# Altium footprint library Resistor.PcbLib: 42 footprints (part 3 of 3)
Each footprint in its own frame and in the unit in brackets; x right, y up, seen from the top. Pads: shape width x height; smd on the part's side, far side on the other; paste and mask are expansions set on the pad; w line width, h text height; cw(c..) or ccw(c..) is an arc to the next point about the centre after c.
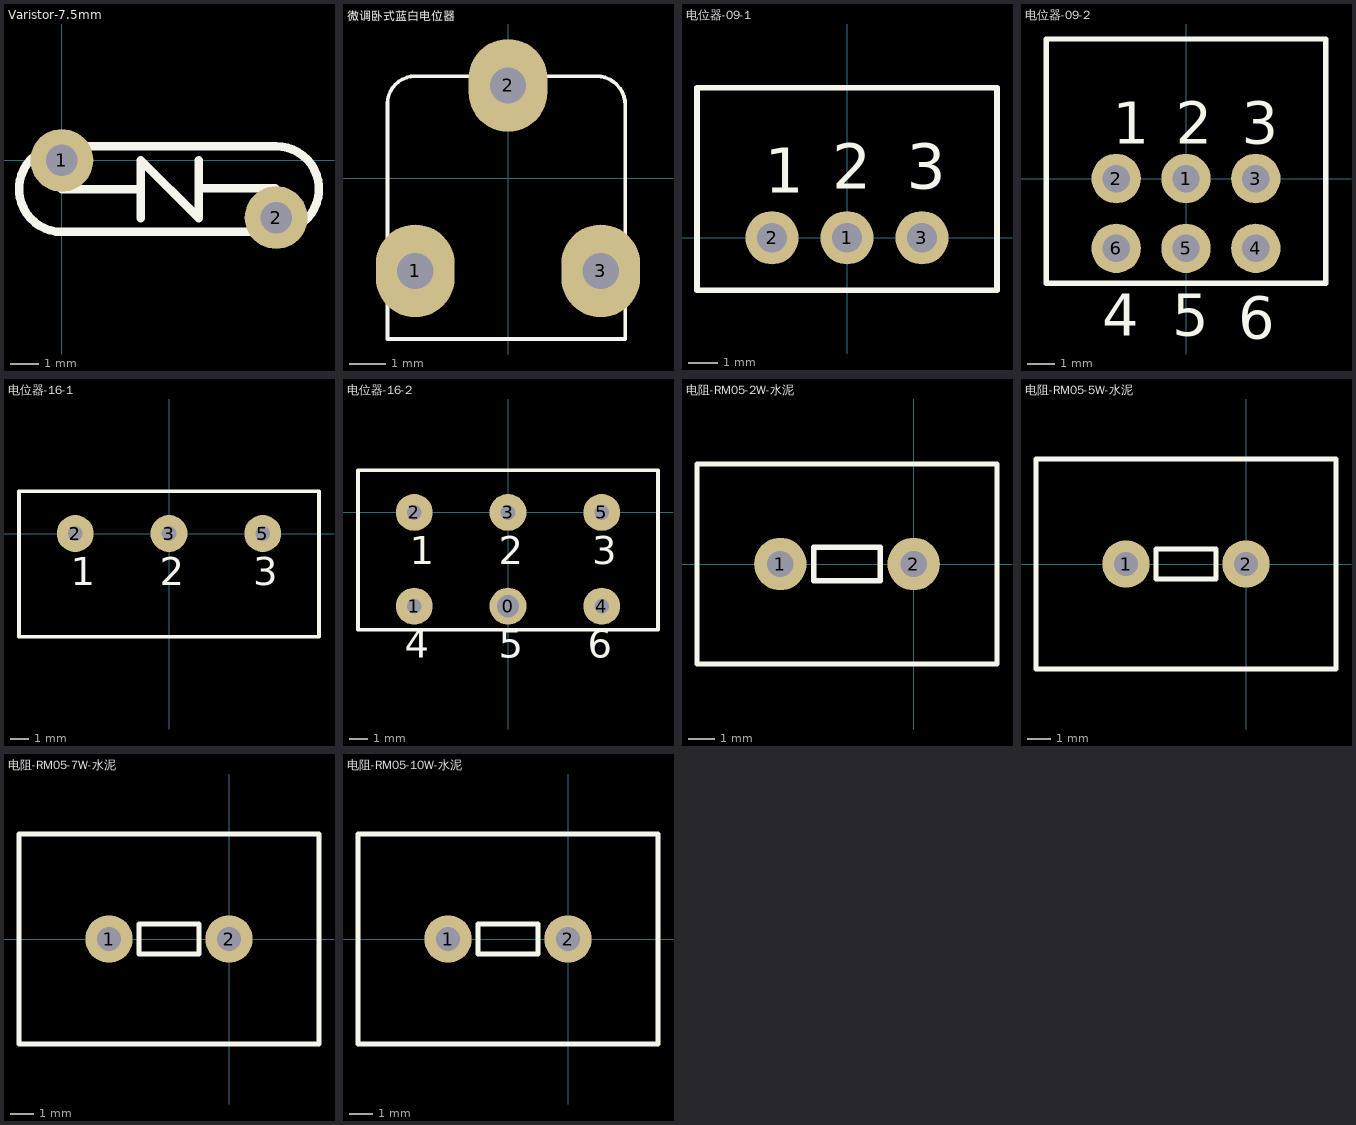
[diagram p2: the footprints below, top view; thin cyan lines are the x and y axes]

## Varistor-7.5mm [mm]
pads (2):
  round 2.2 hole 1.1: 1(0,0) 2(7.5,-2)
Top Overlay:
  lines w0.3: 0,-1.003 2.625,-1.003 ; 2.757,-2.019 2.757,0.013 4.789,-2.019 4.789,0.013 ; 4.825,-0.978 7.475,-0.978 ; 0,-2.503 cw(c0,-1.003) 0,0.497 7.5,0.497 cw(c7.5,-1.003) 7.5,-2.503 0,-2.503
Bottom Courtyard:
  text ".Designator" at 11.368,-1.508 h1.52
3D body "10D471K.STEP": height 11.2, standoff -4, extent -1.6,-2.8 9.1,0.8

## 微调卧式蓝白电位器 [mil]
pads (3):
  oval 85x100 hole 39: 1(-100,-100) 2(0,100) 3(100,-100)
Top Overlay:
  lines w3.94: -130,-173.46 -130,80 cw(c-100,80) -100,110 95,110 cw(c95,78.46) 126.54,78.46 126.54,-173.46 -130,-173.46
Bottom Courtyard:
  text ".Designator" at 299.9,-38.98 h60
3D body "User Library-Trimmer, 3306F-1.STEP": height 300, standoff -119.49, extent -134.05,-191.98 134.06,132.89

## 电位器-09-1 [mm]
pads (3):
  round 1.8 hole 1: 1(0,0) 2(-2.54,0) 3(2.54,0)
Top Overlay:
  lines w0.2: -5.08,-1.778 5.08,-1.778 5.08,5.08 -5.08,5.08 -5.08,-1.778
  text "3" at 2.032,1.651 h1.52
  text "2" at -0.508,1.651 h1.52
  text "1" at -2.794,1.524 h1.52
Bottom Courtyard:
  text ".Designator" at 7.618,8.593 h1.52
3D body: height 3, standoff 0, extent -2.794,-0.254 -2.286,0.254
3D body: height 3, standoff 0, extent -0.254,-0.254 0.254,0.254
3D body: height 3, standoff 0, extent 2.286,-0.254 2.794,0.254
3D body: height 8.88, standoff 3.82, extent -2.53,10.08 2.53,13.08
3D body: height 9.34, standoff 3.36, extent -2.988,13.08 2.988,20.08
3D body: height 9.84, standoff 2.86, extent -3.485,5.08 3.487,10.08
3D body: height 11, standoff 0, extent -5.08,3.81 5.08,5.08
3D body: height 11, standoff 0, extent -5.08,-1.778 5.08,3.81

## 电位器-09-2 [mm]
pads (6):
  round 1.8 hole 1: 1(0,0) 2(-2.54,0) 3(2.54,0) 4(2.54,-2.54) 5(0,-2.54) 6(-2.54,-2.54)
Top Overlay:
  lines w0.2: -5.08,-3.81 -5.08,5.08 5.08,5.08 5.08,-3.81 -5.08,-3.81
  text "6" at 1.905,-5.842 h1.52
  text "5" at -0.508,-5.715 h1.52
  text "4" at -3.048,-5.715 h1.52
  text "3" at 2.032,1.27 h1.52
  text "2" at -0.381,1.27 h1.52
  text "1" at -2.667,1.27 h1.52
Bottom Courtyard:
  text ".Designator" at 7.618,6.484 h1.52
3D body: height 3, standoff 0, extent -2.794,-2.794 -2.286,-2.286
3D body: height 3, standoff 0, extent -0.254,-2.794 0.254,-2.286
3D body: height 3, standoff 0, extent 2.286,-2.794 2.794,-2.286
3D body: height 3, standoff 0, extent -2.794,-0.254 -2.286,0.254
3D body: height 3, standoff 0, extent -0.254,-0.254 0.254,0.254
3D body: height 3, standoff 0, extent 2.286,-0.254 2.794,0.254
3D body: height 8.88, standoff 3.82, extent -2.53,10.08 2.53,13.08
3D body: height 9.34, standoff 3.36, extent -2.988,13.08 2.988,20.08
3D body: height 9.84, standoff 2.86, extent -3.485,5.08 3.487,10.08
3D body: height 11, standoff 0, extent -5.08,3.81 5.08,5.08
3D body: height 11, standoff 0, extent -5.08,-3.81 5.08,3.81

## 电位器-16-1 [mm]
pads (3):
  round 2 hole 0.8: 2(-5.08,0) 3(0,0) 5(5.08,0)
Top Overlay:
  lines w0.2: -8.128,-5.588 -8.128,2.286 8.128,2.286 8.128,-5.588 -8.128,-5.588
  text "3" at 4.572,-2.794 h1.52
  text "2" at -0.508,-2.794 h1.52
  text "1" at -5.334,-2.794 h1.52
Bottom Courtyard:
  text ".Designator" at 7.618,7.998 h1.52
3D body: height 17.69, standoff 7.71, extent -4.98,-5.588 4.98,-4.488
3D body: height 15.69, standoff 9.71, extent -2.978,12.7 2.998,22.7
3D body: height 15.23, standoff 10.17, extent -2.52,9.7 2.54,12.7
3D body: height 16.19, standoff 9.21, extent -3.51,3.302 3.463,9.802
3D body: height 18.69, standoff 6.71, extent -5.976,2.302 5.976,3.302
3D body: height 13, standoff 1, extent -7.968,0.246 7.968,1.278
3D body: height 20.68, standoff 4.72, extent -7.937,0.27 8,1.27
3D body: height 20.68, standoff 4.72, extent -7.968,1.286 7.968,2.286
3D body: height 4, standoff 0, extent -1.27,-0.381 1.27,0.381
3D body: height 4, standoff 0, extent 3.81,-0.381 6.35,0.381
3D body: height 4, standoff 0, extent -6.35,-0.381 -3.81,0.381
3D body: height 1, standoff -4, extent -5.477,-0.399 -4.68,0.399
3D body: height 1, standoff -4, extent -0.397,-0.399 0.4,0.399
3D body: height 1, standoff -4, extent 4.683,-0.399 5.48,0.399
3D body: height 2.6, standoff 1.4, extent -5.678,-0.508 -4.482,1.492
3D body: height 2.6, standoff 1.4, extent -0.598,-0.508 0.598,1.492
3D body: height 2.6, standoff 1.4, extent 4.482,-0.508 5.678,1.492
3D body: height 20.68, standoff 4.72, extent -7.939,-5.492 7.998,0.508

## 电位器-16-2 [mm]
pads (6):
  round 2 hole 1.2: 0(0,-5.08)
  round 2 hole 0.8: 1(-5.08,-5.08) 2(-5.08,0) 3(0,0) 4(5.08,-5.08) 5(5.08,0)
Top Overlay:
  lines w0.2: -8.128,-6.35 8.128,-6.35 8.128,2.286 -8.128,2.286 -8.128,-6.35
  text "4" at -5.588,-7.874 h1.52
  text "5" at -0.508,-7.874 h1.52
  text "6" at 4.318,-7.874 h1.52
  text "1" at -5.334,-2.794 h1.52
  text "2" at -0.508,-2.794 h1.52
  text "3" at 4.572,-2.794 h1.52
Bottom Courtyard:
  text ".Designator" at 7.618,6.778 h1.52
3D body: height 20.68, standoff 4.72, extent -7.939,-5.492 7.998,0.508
3D body: height 2.6, standoff 1.4, extent -5.678,-6.572 -4.482,-4.572
3D body: height 2.6, standoff 1.4, extent -0.598,-6.572 0.598,-4.572
3D body: height 2.6, standoff 1.4, extent 4.482,-6.572 5.678,-4.572
3D body: height 2.6, standoff 1.4, extent 4.482,-0.508 5.678,1.492
3D body: height 2.6, standoff 1.4, extent -0.598,-0.508 0.598,1.492
3D body: height 2.6, standoff 1.4, extent -5.678,-0.508 -4.482,1.492
3D body: height 1, standoff -4, extent 4.683,-0.399 5.48,0.399
3D body: height 1, standoff -4, extent -0.397,-0.399 0.4,0.399
3D body: height 1, standoff -4, extent -5.477,-0.399 -4.68,0.399
3D body: height 4, standoff 0, extent 3.81,-5.461 6.35,-4.699
3D body: height 4, standoff 0, extent -1.27,-5.461 1.27,-4.699
3D body: height 4, standoff 0, extent -6.35,-5.461 -3.81,-4.699
3D body: height 4, standoff 0, extent -6.35,-0.381 -3.81,0.381
3D body: height 4, standoff 0, extent 3.81,-0.381 6.35,0.381
3D body: height 4, standoff 0, extent -1.27,-0.381 1.27,0.381
3D body: height 20.68, standoff 4.72, extent -7.968,1.286 7.968,2.286
3D body: height 20.68, standoff 4.72, extent -7.937,0.27 8,1.27
3D body: height 13, standoff 1, extent -7.968,0.246 7.968,1.278
3D body: height 13, standoff 1, extent -7.968,-6.358 7.968,-5.326
3D body: height 20.68, standoff 4.72, extent -7.968,-6.358 7.968,-5.358
3D body: height 18.69, standoff 6.71, extent -5.976,2.302 5.976,3.302
3D body: height 16.19, standoff 9.21, extent -3.51,3.302 3.463,9.802
3D body: height 15.23, standoff 10.17, extent -2.52,9.7 2.54,12.7
3D body: height 15.69, standoff 9.71, extent -2.988,12.7 2.988,22.7
3D body: height 17.69, standoff 7.71, extent -4.98,-6.572 4.98,-5.472
3D body: height 1, standoff -4, extent -5.477,-5.479 -4.68,-4.681
3D body: height 1, standoff -4, extent -0.397,-5.479 0.4,-4.681
3D body: height 1, standoff -4, extent 4.683,-5.479 5.48,-4.681

## 电阻-RM05-2W-水泥 [mm]
pads (2):
  round 2 hole 1: 1(-5.08,0) 2(0,0)
Top Overlay:
  lines w0.2: -8.255,-3.81 -8.255,3.81 3.175,3.81 3.175,-3.81 1.524,-3.81 -8.255,-3.81 ; -3.81,-0.635 -1.27,-0.635 -1.27,0.635 -3.81,0.635 -3.81,-0.635
Bottom Courtyard:
  text ".Designator" at 5.078,-0.508 h1.52
3D body "User Library-Cement Power Resistor SQM-02 2W 10R.STEP": height 20.5, standoff -5, extent -8.29,-3.75 3.21,3.75

## 电阻-RM05-5W-水泥 [mm]
pads (2):
  round 2 hole 1: 1(-5.08,0) 2(0,0)
Top Overlay:
  lines w0.2: -8.89,-4.445 -8.89,4.445 3.81,4.445 3.81,-4.445 -8.89,-4.445 ; -3.81,-0.635 -1.27,-0.635 -1.27,0.635 -3.81,0.635 -3.81,-0.635
Bottom Courtyard:
  text ".Designator" at 5.078,-0.508 h1.52
3D body "User Library-Cement Power Resistor SQM-05 5W 1K1.STEP": height 25, standoff -5, extent -8.79,-4.5 3.71,4.5

## 电阻-RM05-7W-水泥 [mm]
pads (2):
  round 2 hole 1: 1(-5.08,0) 2(0,0)
Top Overlay:
  lines w0.2: -8.89,-4.445 -8.89,4.445 3.81,4.445 3.81,-4.445 -8.89,-4.445 ; -3.81,-0.635 -1.27,-0.635 -1.27,0.635 -3.81,0.635 -3.81,-0.635
Bottom Courtyard:
  text ".Designator" at 5.078,-0.508 h1.52
3D body "User Library-Cement Power Resistor SQM-07 7W 1K.STEP": height 39, standoff -5, extent -8.79,-4.5 3.71,4.5

## 电阻-RM05-10W-水泥 [mm]
pads (2):
  round 2 hole 1: 1(-5.08,0) 2(0,0)
Top Overlay:
  lines w0.2: -8.89,-4.445 3.81,-4.445 3.81,4.445 -8.89,4.445 -8.89,-4.445 ; -3.81,-0.635 -3.81,0.635 -1.27,0.635 -1.27,-0.635 -3.81,-0.635
Bottom Courtyard:
  text ".Designator" at 5.078,-0.508 h1.52
3D body "User Library-Cement Power Resistor SQM-10 10W 10K.STEP": height 51, standoff -5, extent -8.79,-4.5 3.71,4.5